# EAGLE library part ATMEGA16U4-MU (library ATMEGA16U4-MU)
8-bit Microcontrollers - MCU AVR USB 16K FLASH Source: Datasheet <http://ww1.microchip.com/downloads/en/DeviceDoc/Atmel-7766-8-bit-AVR-ATmega16U4-32U4_Summary.pdf>
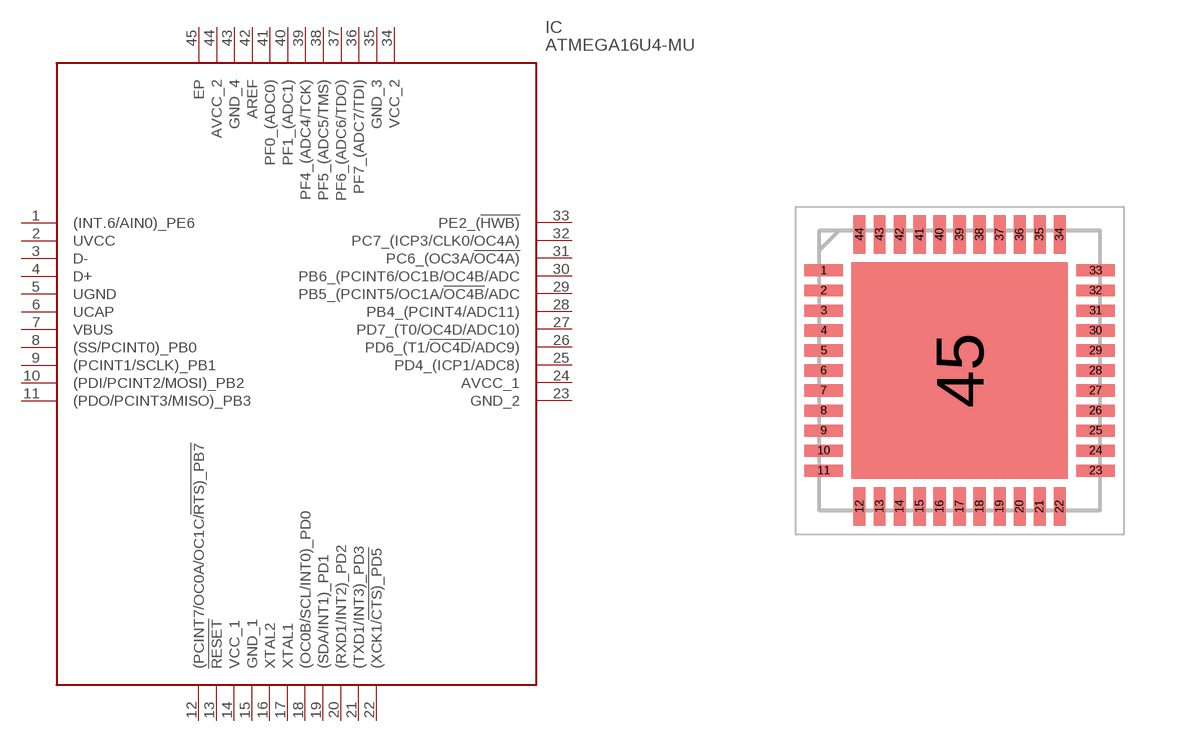
[diagram p0: symbol with the pads of QFN50P700X700X100-45N; footprint QFN50P700X700X100-45N]

Designator prefix IC

## ATMEGA16U4-MU (Arrow_Part_Number: ATMEGA16U4-MU; Arrow_Price-Stock: https://www.arrow.com/en/products/atmega16u4-mu/microchip-technology; Description: 8-bit Microcontrollers - MCU AVR USB 16K FLASH; Height: 1mm; Manufacturer_Name: Microchip; Manufacturer_Part_Number: ATMEGA16U4-MU; Mouser_Part_Number: 556-ATMEGA16U4-MU; Mouser_Price-Stock: https://www.mouser.co.uk/ProductDetail/Microchip-Technology-Atmel/ATMEGA16U4-MU?qs=JV7lzlMm3yJIv2SnL088SQ%3D%3D)  [QFN50P700X700X100-45N]
1  (INT.6/AIN0)_PE6
2  UVCC
3  D-
4  D+
5  UGND
6  UCAP
7  VBUS
8  (SS/PCINT0)_PB0
9  (PCINT1/SCLK)_PB1
10  (PDI/PCINT2/MOSI)_PB2
11  (PDO/PCINT3/MISO)_PB3
12  (PCINT7/OC0A/OC1C/!RTS)_PB7
13  !RESET
14  VCC_1
15  GND_1
16  XTAL2
17  XTAL1
18  (OC0B/SCL/INT0)_PD0
19  (SDA/INT1)_PD1
20  (RXD1/INT2)_PD2
21  (TXD1/INT3)_PD3
22  (XCK1/!CTS)_PD5
23  GND_2
24  AVCC_1
25  PD4_(ICP1/ADC8)
26  PD6_(T1/!OC4D!/ADC9)
27  PD7_(T0/OC4D/ADC10)
28  PB4_(PCINT4/ADC11)
29  PB5_(PCINT5/OC1A/!OC4B!/ADC
30  PB6_(PCINT6/OC1B/OC4B/ADC
31  PC6_(OC3A/!OC4A)
32  PC7_(ICP3/CLK0/OC4A)
33  PE2_(!HWB)
34  VCC_2
35  GND_3
36  PF7_(ADC7/TDI)
37  PF6_(ADC6/TDO)
38  PF5_(ADC5/TMS)
39  PF4_(ADC4/TCK)
40  PF1_(ADC1)
41  PF0_(ADC0)
42  AREF
43  GND_4
44  AVCC_2
45  EP

## Footprint QFN50P700X700X100-45N (pad centres in mm)
QFN 44
smd 0.95 x 0.3: 1 -3.4,2.5; 2 -3.4,2; 3 -3.4,1.5; 4 -3.4,1; 5 -3.4,0.5; 6 -3.4,0; 7 -3.4,-0.5; 8 -3.4,-1; 9 -3.4,-1.5; 10 -3.4,-2; 11 -3.4,-2.5; 23 3.4,-2.5; 24 3.4,-2; 25 3.4,-1.5; 26 3.4,-1; 27 3.4,-0.5; 28 3.4,0; 29 3.4,0.5; 30 3.4,1; 31 3.4,1.5; 32 3.4,2; 33 3.4,2.5
smd 0.3 x 0.95: 12 -2.5,-3.4; 13 -2,-3.4; 14 -1.5,-3.4; 15 -1,-3.4; 16 -0.5,-3.4; 17 0,-3.4; 18 0.5,-3.4; 19 1,-3.4; 20 1.5,-3.4; 21 2,-3.4; 22 2.5,-3.4; 34 2.5,3.4; 35 2,3.4; 36 1.5,3.4; 37 1,3.4; 38 0.5,3.4; 39 0,3.4; 40 -0.5,3.4; 41 -1,3.4; 42 -1.5,3.4; 43 -2,3.4; 44 -2.5,3.4
smd 5.4 x 5.4: 45 0,0